# Altium integrated library NSC MiscPower.IntLib: 742 symbols (part 12 of 19)
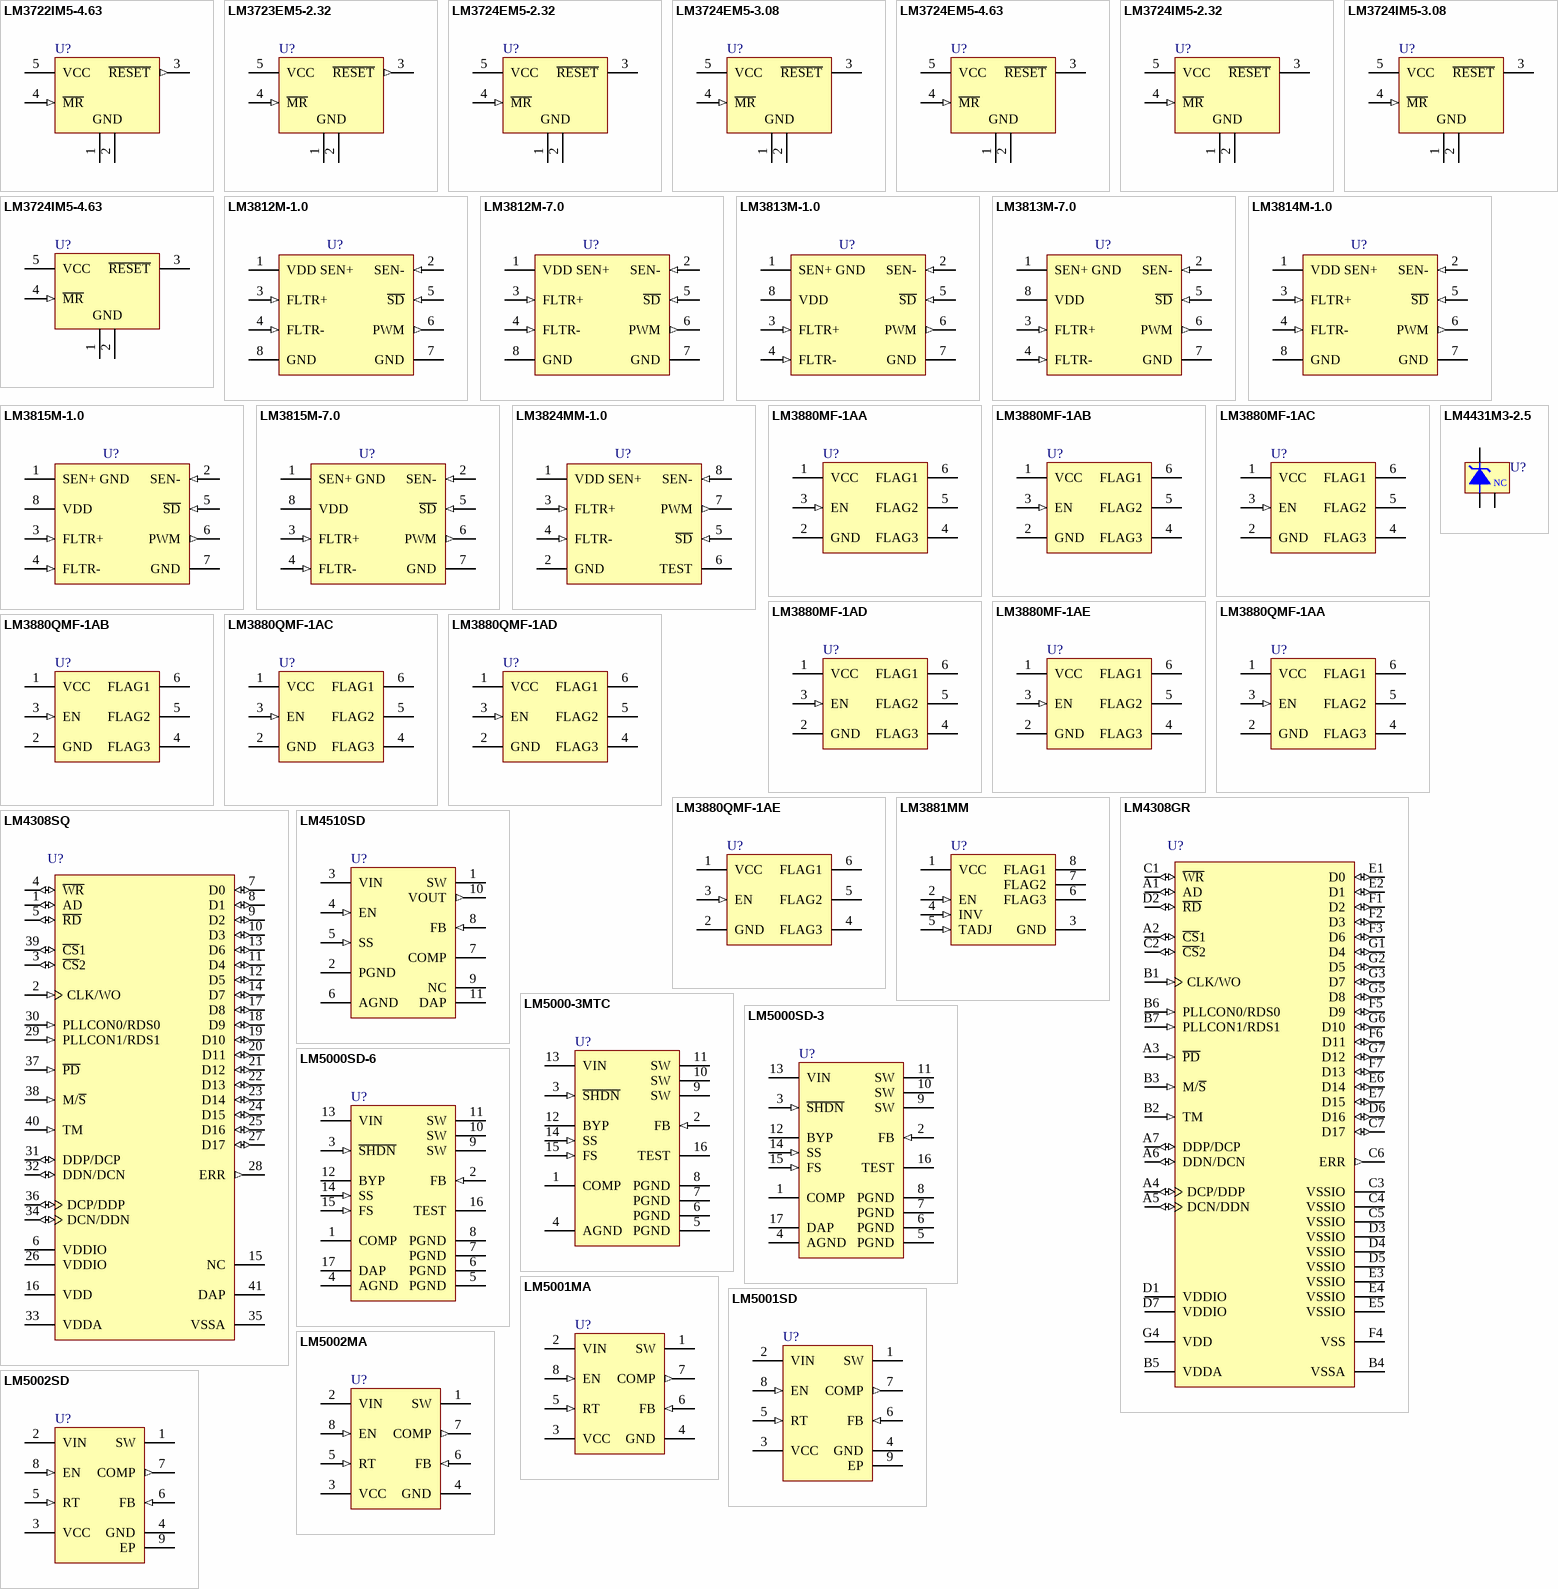
[diagram p36: symbols LM3722IM5-4.63 to LM5002SD]

## LM3880MF-1AC
designator U?
Power Sequencer; PartNumber: LM3880MF-1AC; Manufacturer: National Semiconductor; CompType: MiscPower; PackageTopMarking: F22A*XTT; PowerWise: N; Published: 4-Dec-2008; DatasheetVersion: May-2008; PackageVersion: revC, Sep-2005; PackageReference: MF06A; Publisher: Altium Limited; PackageDescription: Molded SOT-23, .115 x .063 x .040in Body, 6 Lead, .0375in in Pitch; RoHS: Y; PinCount: 6; DigiKeyPartNumber: LM3880MF-1ACCT-ND; Code_JEDEC: MO-178-AB; Code_IPC: SOT26A-6; ComponentLink1Description: LM3880 Datasheet; ComponentLink1URL: http://www.national.com/ds/LM/LM3880.pdf; ComponentLink2Description: LM3880 Web Page; ComponentLink2URL: http://www.national.com/pf/LM/LM3880.html; ComponentLink3Description: MF06A Package Page; ComponentLink3URL: http://www.national.com/packaging/folders/mf06a.html
footprint MF06A_N (SOT23, 6-Leads, Body 2.9x1.6mm, Pitch 0.95mm, Lead Span 2.8mm, IPC Medium Density)
footprint MF06A_L (SOT23, 6-Leads, Body 2.9x1.6mm, Pitch 0.95mm, Lead Span 2.8mm, IPC High Density)
footprint MF06A_M (SOT23, 6-Leads, Body 2.9x1.6mm, Pitch 0.95mm, Lead Span 2.8mm, IPC Low Density)
pins: 1 VCC (power), 2 GND (power), 3 EN (in), 4 FLAG3 (oc), 5 FLAG2 (oc), 6 FLAG1 (oc)

## LM3880MF-1AD
designator U?
Power Sequencer; PartNumber: LM3880MF-1AD; Manufacturer: National Semiconductor; CompType: MiscPower; PackageTopMarking: F23A*XTT; PowerWise: N; Published: 4-Dec-2008; DatasheetVersion: May-2008; PackageVersion: revC, Sep-2005; PackageReference: MF06A; Publisher: Altium Limited; PackageDescription: Molded SOT-23, .115 x .063 x .040in Body, 6 Lead, .0375in in Pitch; RoHS: Y; PinCount: 6; DigiKeyPartNumber: LM3880MF-1ADCT-ND; Code_JEDEC: MO-178-AB; Code_IPC: SOT26A-6; ComponentLink1Description: LM3880 Datasheet; ComponentLink1URL: http://www.national.com/ds/LM/LM3880.pdf; ComponentLink2Description: LM3880 Web Page; ComponentLink2URL: http://www.national.com/pf/LM/LM3880.html; ComponentLink3Description: MF06A Package Page; ComponentLink3URL: http://www.national.com/packaging/folders/mf06a.html
footprint MF06A_N (SOT23, 6-Leads, Body 2.9x1.6mm, Pitch 0.95mm, Lead Span 2.8mm, IPC Medium Density)
footprint MF06A_L (SOT23, 6-Leads, Body 2.9x1.6mm, Pitch 0.95mm, Lead Span 2.8mm, IPC High Density)
footprint MF06A_M (SOT23, 6-Leads, Body 2.9x1.6mm, Pitch 0.95mm, Lead Span 2.8mm, IPC Low Density)
pins: 1 VCC (power), 2 GND (power), 3 EN (in), 4 FLAG3 (oc), 5 FLAG2 (oc), 6 FLAG1 (oc)

## LM3880MF-1AE
designator U?
Power Sequencer; PartNumber: LM3880MF-1AE; Manufacturer: National Semiconductor; CompType: MiscPower; PackageTopMarking: F25A*XTT; PowerWise: N; Published: 4-Dec-2008; DatasheetVersion: May-2008; PackageVersion: revC, Sep-2005; PackageReference: MF06A; Publisher: Altium Limited; PackageDescription: Molded SOT-23, .115 x .063 x .040in Body, 6 Lead, .0375in in Pitch; RoHS: Y; PinCount: 6; DigiKeyPartNumber: LM3880MF-1AECT-ND; Code_JEDEC: MO-178-AB; Code_IPC: SOT26A-6; ComponentLink1Description: LM3880 Datasheet; ComponentLink1URL: http://www.national.com/ds/LM/LM3880.pdf; ComponentLink2Description: LM3880 Web Page; ComponentLink2URL: http://www.national.com/pf/LM/LM3880.html; ComponentLink3Description: MF06A Package Page; ComponentLink3URL: http://www.national.com/packaging/folders/mf06a.html
footprint MF06A_N (SOT23, 6-Leads, Body 2.9x1.6mm, Pitch 0.95mm, Lead Span 2.8mm, IPC Medium Density)
footprint MF06A_L (SOT23, 6-Leads, Body 2.9x1.6mm, Pitch 0.95mm, Lead Span 2.8mm, IPC High Density)
footprint MF06A_M (SOT23, 6-Leads, Body 2.9x1.6mm, Pitch 0.95mm, Lead Span 2.8mm, IPC Low Density)
pins: 1 VCC (power), 2 GND (power), 3 EN (in), 4 FLAG3 (oc), 5 FLAG2 (oc), 6 FLAG1 (oc)

## LM3880QMF-1AA
designator U?
Power Sequencer; PartNumber: LM3880QMF-1AA; Manufacturer: National Semiconductor; CompType: MiscPower; PackageTopMarking: F27A*XTT; PowerWise: N; Published: 4-Dec-2008; DatasheetVersion: May-2008; PackageVersion: revC, Sep-2005; PackageReference: MF06A; Publisher: Altium Limited; PackageDescription: Molded SOT-23, .115 x .063 x .040in Body, 6 Lead, .0375in in Pitch; RoHS: Y; PinCount: 6; DigiKeyPartNumber: LM3880QMF-1AACT-ND; Code_JEDEC: MO-178-AB; Code_IPC: SOT26A-6; ComponentLink1Description: LM3880Q Datasheet; ComponentLink1URL: http://www.national.com/ds/LM/LM3880.pdf; ComponentLink2Description: LM3880Q Web Page; ComponentLink2URL: http://www.national.com/pf/LM/LM3880Q.html; ComponentLink3Description: MF06A Package Page; ComponentLink3URL: http://www.national.com/packaging/folders/mf06a.html
footprint MF06A_N (SOT23, 6-Leads, Body 2.9x1.6mm, Pitch 0.95mm, Lead Span 2.8mm, IPC Medium Density)
footprint MF06A_L (SOT23, 6-Leads, Body 2.9x1.6mm, Pitch 0.95mm, Lead Span 2.8mm, IPC High Density)
footprint MF06A_M (SOT23, 6-Leads, Body 2.9x1.6mm, Pitch 0.95mm, Lead Span 2.8mm, IPC Low Density)
pins: 1 VCC (power), 2 GND (power), 3 EN (in), 4 FLAG3 (oc), 5 FLAG2 (oc), 6 FLAG1 (oc)

## LM3880QMF-1AB
designator U?
Power Sequencer; PartNumber: LM3880QMF-1AB; Manufacturer: National Semiconductor; CompType: MiscPower; PackageTopMarking: F28A*XTT; PowerWise: N; Published: 4-Dec-2008; DatasheetVersion: May-2008; PackageVersion: revC, Sep-2005; PackageReference: MF06A; Publisher: Altium Limited; PackageDescription: Molded SOT-23, .115 x .063 x .040in Body, 6 Lead, .0375in in Pitch; RoHS: Y; PinCount: 6; DigiKeyPartNumber: LM3880QMF-1ABCT-ND; Code_JEDEC: MO-178-AB; Code_IPC: SOT26A-6; ComponentLink1Description: LM3880Q Datasheet; ComponentLink1URL: http://www.national.com/ds/LM/LM3880.pdf; ComponentLink2Description: LM3880Q Web Page; ComponentLink2URL: http://www.national.com/pf/LM/LM3880Q.html; ComponentLink3Description: MF06A Package Page; ComponentLink3URL: http://www.national.com/packaging/folders/mf06a.html
footprint MF06A_N (SOT23, 6-Leads, Body 2.9x1.6mm, Pitch 0.95mm, Lead Span 2.8mm, IPC Medium Density)
footprint MF06A_L (SOT23, 6-Leads, Body 2.9x1.6mm, Pitch 0.95mm, Lead Span 2.8mm, IPC High Density)
footprint MF06A_M (SOT23, 6-Leads, Body 2.9x1.6mm, Pitch 0.95mm, Lead Span 2.8mm, IPC Low Density)
pins: 1 VCC (power), 2 GND (power), 3 EN (in), 4 FLAG3 (oc), 5 FLAG2 (oc), 6 FLAG1 (oc)

## LM3880QMF-1AC
designator U?
Power Sequencer; PartNumber: LM3880QMF-1AC; Manufacturer: National Semiconductor; CompType: MiscPower; PackageTopMarking: F29A*XTT; PowerWise: N; Published: 4-Dec-2008; DatasheetVersion: May-2008; PackageVersion: revC, Sep-2005; PackageReference: MF06A; Publisher: Altium Limited; PackageDescription: Molded SOT-23, .115 x .063 x .040in Body, 6 Lead, .0375in in Pitch; RoHS: Y; PinCount: 6; DigiKeyPartNumber: LM3880QMF-1ACCT-ND; Code_JEDEC: MO-178-AB; Code_IPC: SOT26A-6; ComponentLink1Description: LM3880Q Datasheet; ComponentLink1URL: http://www.national.com/ds/LM/LM3880.pdf; ComponentLink2Description: LM3880Q Web Page; ComponentLink2URL: http://www.national.com/pf/LM/LM3880Q.html; ComponentLink3Description: MF06A Package Page; ComponentLink3URL: http://www.national.com/packaging/folders/mf06a.html
footprint MF06A_N (SOT23, 6-Leads, Body 2.9x1.6mm, Pitch 0.95mm, Lead Span 2.8mm, IPC Medium Density)
footprint MF06A_L (SOT23, 6-Leads, Body 2.9x1.6mm, Pitch 0.95mm, Lead Span 2.8mm, IPC High Density)
footprint MF06A_M (SOT23, 6-Leads, Body 2.9x1.6mm, Pitch 0.95mm, Lead Span 2.8mm, IPC Low Density)
pins: 1 VCC (power), 2 GND (power), 3 EN (in), 4 FLAG3 (oc), 5 FLAG2 (oc), 6 FLAG1 (oc)

## LM3880QMF-1AD
designator U?
Power Sequencer; PartNumber: LM3880QMF-1AD; Manufacturer: National Semiconductor; CompType: MiscPower; PackageTopMarking: F30A*XTT; PowerWise: N; Published: 4-Dec-2008; DatasheetVersion: May-2008; PackageVersion: revC, Sep-2005; PackageReference: MF06A; Publisher: Altium Limited; PackageDescription: Molded SOT-23, .115 x .063 x .040in Body, 6 Lead, .0375in in Pitch; RoHS: Y; PinCount: 6; DigiKeyPartNumber: LM3880QMF-1ADCT-ND; Code_JEDEC: MO-178-AB; Code_IPC: SOT26A-6; ComponentLink1Description: LM3880Q Datasheet; ComponentLink1URL: http://www.national.com/ds/LM/LM3880.pdf; ComponentLink2Description: LM3880Q Web Page; ComponentLink2URL: http://www.national.com/pf/LM/LM3880Q.html; ComponentLink3Description: MF06A Package Page; ComponentLink3URL: http://www.national.com/packaging/folders/mf06a.html
footprint MF06A_N (SOT23, 6-Leads, Body 2.9x1.6mm, Pitch 0.95mm, Lead Span 2.8mm, IPC Medium Density)
footprint MF06A_L (SOT23, 6-Leads, Body 2.9x1.6mm, Pitch 0.95mm, Lead Span 2.8mm, IPC High Density)
footprint MF06A_M (SOT23, 6-Leads, Body 2.9x1.6mm, Pitch 0.95mm, Lead Span 2.8mm, IPC Low Density)
pins: 1 VCC (power), 2 GND (power), 3 EN (in), 4 FLAG3 (oc), 5 FLAG2 (oc), 6 FLAG1 (oc)

## LM3880QMF-1AE
designator U?
Power Sequencer; PartNumber: LM3880QMF-1AE; Manufacturer: National Semiconductor; CompType: MiscPower; PackageTopMarking: F24A*XTT; PowerWise: N; Published: 4-Dec-2008; DatasheetVersion: May-2008; PackageVersion: revC, Sep-2005; PackageReference: MF06A; Publisher: Altium Limited; PackageDescription: Molded SOT-23, .115 x .063 x .040in Body, 6 Lead, .0375in in Pitch; RoHS: Y; PinCount: 6; Code_JEDEC: MO-178-AB; Code_IPC: SOT26A-6; ComponentLink1Description: LM3880Q Datasheet; ComponentLink1URL: http://www.national.com/ds/LM/LM3880.pdf; ComponentLink2Description: LM3880Q Web Page; ComponentLink2URL: http://www.national.com/pf/LM/LM3880Q.html; ComponentLink3Description: MF06A Package Page; ComponentLink3URL: http://www.national.com/packaging/folders/mf06a.html
footprint MF06A_N (SOT23, 6-Leads, Body 2.9x1.6mm, Pitch 0.95mm, Lead Span 2.8mm, IPC Medium Density)
footprint MF06A_L (SOT23, 6-Leads, Body 2.9x1.6mm, Pitch 0.95mm, Lead Span 2.8mm, IPC High Density)
footprint MF06A_M (SOT23, 6-Leads, Body 2.9x1.6mm, Pitch 0.95mm, Lead Span 2.8mm, IPC Low Density)
pins: 1 VCC (power), 2 GND (power), 3 EN (in), 4 FLAG3 (oc), 5 FLAG2 (oc), 6 FLAG1 (oc)

## LM3881MM
designator U?
Power Sequencer; PartNumber: LM3881MM; Manufacturer: National Semiconductor; CompType: MiscPower; PackageTopMarking: ZXTT*STBB; PowerWise: N; Published: 4-Dec-2008; DatasheetVersion: Apr-2008; PackageVersion: revF, Apr-2008; PackageReference: MUA08A; Publisher: Altium Limited; PackageDescription: MINI SOIC, .118 x .118 x .034in, 8 Lead, .0256in Pitch; RoHS: Y; PinCount: 8; DigiKeyPartNumber: LM3881MMCT-ND; Code_JEDEC: MO-187-AA; ComponentLink1Description: LM3881 Datasheet; ComponentLink1URL: http://www.national.com/ds/LM/LM3881.pdf; ComponentLink2Description: LM3881 Web Page; ComponentLink2URL: http://www.national.com/pf/LM/LM3881.html; ComponentLink3Description: MUA08A Package Page; ComponentLink3URL: http://www.national.com/packaging/folders/mua08a.html
footprint MUA08A_N (TSOP, 8-Leads, Body 3x3mm, Pitch 0.65mm, IPC Medium Density)
footprint MUA08A_L (TSOP, 8-Leads, Body 3x3mm, Pitch 0.65mm, IPC High Density)
footprint MUA08A_M (TSOP, 8-Leads, Body 3x3mm, Pitch 0.65mm, IPC Low Density)
pins: 1 VCC (power), 2 EN (in), 3 GND (power), 4 INV (in), 5 TADJ (in), 6 FLAG3 (oc), 7 FLAG2 (oc), 8 FLAG1 (oc)

## LM4308GR
designator U?
Mobile Pixel Link Two (MPL-2)  - 18-bit CPU Display Interface Master/Slave; PartNumber: LM4308GR; Manufacturer: National Semiconductor; CompType: MiscPower; PackageTopMarking: NS*UZXYTT*L4308GR; PowerWise: N; Published: 4-Dec-2008; DatasheetVersion: Sep-2007; PackageVersion: revA, Nov-2003; PackageReference: GRA49A; Publisher: Altium Limited; PackageDescription: Micro-Array, 4 x 4 x 1mm Body, 49 Ball, 0.5mm Pitch; RoHS: Y; PinCount: 49; DigiKeyPartNumber: LM4308GR-ND; ComponentLink1Description: LM4308 Datasheet; ComponentLink1URL: http://www.national.com/ds/LM/LM4308.pdf; ComponentLink2Description: LM4308 Web Page; ComponentLink2URL: http://www.national.com/pf/LM/LM4308.html; ComponentLink3Description: GRA49A Package Page; ComponentLink3URL: http://www.national.com/packaging/folders/gra49a.html
footprint GRA49A (BGA, 49-Leads, Body 4x4mm, Pitch 0.5mm, NSC Recommended)
pins: A1 AD (io), A2 ~{CS}1 (io), A3 ~{PD} (in), A4 DCP/DDP (io), A5 DCN/DDN (io), A6 DDN/DCN (io), A7 DDP/DCP (io), B1 CLK/WO (in), B2 TM (in), B3 M/~{S} (in), B4 VSSA (power), B5 VDDA (power), B6 PLLCON0/RDS0 (in), B7 PLLCON1/RDS1 (in), C1 ~{WR} (io), C2 ~{CS}2 (io), C3 VSSIO, C4 VSSIO, C5 VSSIO, C6 ERR (out), C7 D17 (io), D1 VDDIO (power), D2 ~{RD} (io), D3 VSSIO, D4 VSSIO, D5 VSSIO, D6 D16 (io), D7 VDDIO (power), E1 D0 (io), E2 D1 (io), E3 VSSIO, E4 VSSIO, E5 VSSIO, E6 D14 (io), E7 D15 (io), F1 D2 (io), F2 D3 (io), F3 D6 (io), F4 VSS (power), F5 D9 (io), F6 D11 (io), F7 D13 (io), G1 D4 (io), G2 D5 (io), G3 D7 (io), G4 VDD (power), G5 D8 (io), G6 D10 (io), G7 D12 (io)

## LM4308SQ
designator U?
Mobile Pixel Link Two (MPL-2)  - 18-bit CPU Display Interface Master/Slave; PartNumber: LM4308SQ; Manufacturer: National Semiconductor; CompType: MiscPower; PackageTopMarking: NS*UZXYTT*L4308SQ; PowerWise: N; Published: 4-Dec-2008; DatasheetVersion: Sep-2007; PackageVersion: revB, Jul-2004; PackageReference: SQF40A; Publisher: Altium Limited; PackageDescription: LLP, Quad, 5 x 5 x 0.8mm Body, 40 Lead, 0.4mm Pitch, 3.6 x 3.6mm Exposed Pad; RoHS: Y; PinCount: 40; DigiKeyPartNumber: LM4308SQ-ND; ComponentLink1Description: LM4308 Datasheet; ComponentLink1URL: http://www.national.com/ds/LM/LM4308.pdf; ComponentLink2Description: LM4308 Web Page; ComponentLink2URL: http://www.national.com/pf/LM/LM4308.html; ComponentLink3Description: SQF40A Package Page; ComponentLink3URL: http://www.national.com/packaging/folders/sqf40a.html
footprint SQF40A (QFN, 40-Leads, Body 5x5 mm, Pitch 0.4mm, NSC Recommended)
pins: 1 AD (io), 2 CLK/WO (in), 3 ~{CS}2 (io), 4 ~{WR} (io), 5 ~{RD} (io), 6 VDDIO (power), 7 D0 (io), 8 D1 (io), 9 D2 (io), 10 D3 (io), 11 D4 (io), 12 D5 (io), 13 D6 (io), 14 D7 (io), 15 NC, 16 VDD (power), 17 D8 (io), 18 D9 (io), 19 D10 (io), 20 D11 (io), 21 D12 (io), 22 D13 (io), 23 D14 (io), 24 D15 (io), 25 D16 (io), 26 VDDIO (power), 27 D17 (io), 28 ERR (out), 29 PLLCON1/RDS1 (in), 30 PLLCON0/RDS0 (in), 31 DDP/DCP (io), 32 DDN/DCN (io), 33 VDDA (power), 34 DCN/DDN (io), 35 VSSA (power), 36 DCP/DDP (io), 37 ~{PD} (in), 38 M/~{S} (in), 39 ~{CS}1 (io), 40 TM (in), 41 DAP (power)

## LM4431M3-2.5
designator U?
Micropower Shunt Voltage Reference; PartNumber: LM4431M3-2.5; Manufacturer: National Semiconductor; CompType: MiscPower; PackageTopMarking: S2E*XTT; PowerWise: N; Published: 4-Dec-2008; DatasheetVersion: Jul-1998; PackageVersion: revB, Mar-2003; PackageReference: MF03A; Publisher: Altium Limited; PackageDescription: Molded SOT-23, .115 x .051 x .037in Body, 3 Lead, .075 in Pitch; RoHS: O; PinCount: 3; DigiKeyPartNumber: LM4431M3-2.5CT-ND; ComponentLink1Description: LM4431 Datasheet; ComponentLink1URL: http://www.national.com/ds/LM/LM4431.pdf; ComponentLink2Description: LM4431 Web Page; ComponentLink2URL: http://www.national.com/pf/LM/LM4431.html; ComponentLink3Description: MF03A Package Page; ComponentLink3URL: http://www.national.com/packaging/folders/mf03a.html
footprint MF03A_N (SOT23, 3-Leads, Body 2.9x1.3mm, Pitch 0.95mm, Lead Span 2.4mm, IPC Medium Density)
footprint MF03A_L (SOT23, 3-Leads, Body 2.9x1.3mm, Pitch 0.95mm, Lead Span 2.4mm, IPC High Density)
footprint MF03A_M (SOT23, 3-Leads, Body 2.9x1.3mm, Pitch 0.95mm, Lead Span 2.4mm, IPC Low Density)
pins: 1 V+, 2 V-, 3 NC

## LM4510SD
designator U?
Synchronous Step-Up DC/DC Converter with True Shutdown Isolation; PartNumber: LM4510SD; Manufacturer: National Semiconductor; CompType: MiscPower; PackageTopMarking: ZXYTT*L4510; PowerWise: Y; Published: 4-Dec-2008; DatasheetVersion: Oct-2007; PackageVersion: revA, Oct-2003; PackageReference: SDA10A; Publisher: Altium Limited; PackageDescription: LLP, Plastic, Dual, 3 x 3 x 0.8mm Body, 10 Lead, 0.5mm Pitch, No Pullback; RoHS: Y; PinCount: 10; DigiKeyPartNumber: LM4510SDEV-ND; ComponentLink1Description: LM4510 Datasheet; ComponentLink1URL: http://www.national.com/ds/LM/LM4510.pdf; ComponentLink2Description: LM4510 Web Page; ComponentLink2URL: http://www.national.com/pf/LM/LM4510.html; ComponentLink3Description: SDA10A Package Page; ComponentLink3URL: http://www.national.com/packaging/folders/sda10a.html
footprint SDA10A (SON, 10-Leads, Body 3x3 mm, Pitch 0.5mm, NSC Recommended)
pins: 1 SW (power), 2 PGND (power), 3 VIN (power), 4 EN (in), 5 SS (in), 6 AGND (power), 7 COMP, 8 FB (in), 9 NC, 10 VOUT (out), 11 DAP (power)

## LM5000-3MTC
designator U?
High Voltage Switch Mode Regulator; PartNumber: LM5000-3MTC; Manufacturer: National Semiconductor; CompType: MiscPower; PackageTopMarking: NSZXYTT*LM5000*3MTC; PowerWise: N; Published: 4-Dec-2008; DatasheetVersion: Feb-2007; PackageVersion: revD, Jun-2003; PackageReference: MTC16; Publisher: Altium Limited; PackageDescription: Molded TSSOP, Jedec, 5 x 4.4 x 0.9mm Body, 16 Lead, 0.65mm Pitch; RoHS: O; PinCount: 16; DigiKeyPartNumber: LM5000-3MTC-ND; Code_JEDEC: MO-153-AB; ComponentLink1Description: LM5000 Datasheet; ComponentLink1URL: http://www.national.com/ds/LM/LM5000.pdf; ComponentLink2Description: LM5000 Web Page; ComponentLink2URL: http://www.national.com/pf/LM/LM5000.html; ComponentLink3Description: MTC16 Package Page; ComponentLink3URL: http://www.national.com/packaging/folders/mtc16.html
footprint MTC16_N (TSOP, 16-Leads, Body 5x4.4mm, Pitch 0.65mm, IPC Medium Density)
footprint MTC16_L (TSOP, 16-Leads, Body 5x4.4mm, Pitch 0.65mm, IPC High Density)
footprint MTC16_M (TSOP, 16-Leads, Body 5x4.4mm, Pitch 0.65mm, IPC Low Density)
pins: 1 COMP, 2 FB (in), 3 ~{SHDN} (in), 4 AGND (power), 5 PGND (power), 6 PGND (power), 7 PGND (power), 8 PGND (power), 9 SW (power), 10 SW (power), 11 SW (power), 12 BYP, 13 VIN (power), 14 SS (in), 15 FS (in), 16 TEST

## LM5000SD-3
designator U?
High Voltage Switch Mode Regulator; PartNumber: LM5000SD-3; Manufacturer: National Semiconductor; CompType: MiscPower; PackageTopMarking: NS*UZXYTT*5000-3; PowerWise: N; Published: 4-Dec-2008; DatasheetVersion: Feb-2007; PackageVersion: revA, May-2003; PackageReference: SDA16A; Publisher: Altium Limited; PackageDescription: LLP, Plastic, Dual, 5 x 5 x 0.8mm Body,16 Lead, 0.5mm Pitch, No Pullback; RoHS: Y; PinCount: 16; DigiKeyPartNumber: LM5000SD-3CT-ND; ComponentLink1Description: LM5000 Datasheet; ComponentLink1URL: http://www.national.com/ds/LM/LM5000.pdf; ComponentLink2Description: LM5000 Web Page; ComponentLink2URL: http://www.national.com/pf/LM/LM5000.html; ComponentLink3Description: SDA16A Package Page; ComponentLink3URL: http://www.national.com/packaging/folders/sda16a.html
footprint SDA16A (SON, 16-Leads, Body 5x5mm, Pitch 0.5mm, NSC Recommended)
pins: 1 COMP, 2 FB (in), 3 ~{SHDN} (in), 4 AGND (power), 5 PGND (power), 6 PGND (power), 7 PGND (power), 8 PGND (power), 9 SW (power), 10 SW (power), 11 SW (power), 12 BYP, 13 VIN (power), 14 SS (in), 15 FS (in), 16 TEST, 17 DAP (power)

## LM5000SD-6
designator U?
High Voltage Switch Mode Regulator; PartNumber: LM5000SD-6; Manufacturer: National Semiconductor; CompType: MiscPower; PackageTopMarking: NS*UZXYTT*5000-6; PowerWise: N; Published: 4-Dec-2008; DatasheetVersion: Feb-2007; PackageVersion: revA, May-2003; PackageReference: SDA16A; Publisher: Altium Limited; PackageDescription: LLP, Plastic, Dual, 5 x 5 x 0.8mm Body,16 Lead, 0.5mm Pitch, No Pullback; RoHS: Y; PinCount: 16; DigiKeyPartNumber: LM5000SD-6CT-ND; ComponentLink1Description: LM5000 Datasheet; ComponentLink1URL: http://www.national.com/ds/LM/LM5000.pdf; ComponentLink2Description: LM5000 Web Page; ComponentLink2URL: http://www.national.com/pf/LM/LM5000.html; ComponentLink3Description: SDA16A Package Page; ComponentLink3URL: http://www.national.com/packaging/folders/sda16a.html
footprint SDA16A (SON, 16-Leads, Body 5x5mm, Pitch 0.5mm, NSC Recommended)
pins: 1 COMP, 2 FB (in), 3 ~{SHDN} (in), 4 AGND (power), 5 PGND (power), 6 PGND (power), 7 PGND (power), 8 PGND (power), 9 SW (power), 10 SW (power), 11 SW (power), 12 BYP, 13 VIN (power), 14 SS (in), 15 FS (in), 16 TEST, 17 DAP (power)

## LM5001MA
designator U?
High Voltage Switch Mode Regulator; PartNumber: LM5001MA; Manufacturer: National Semiconductor; CompType: MiscPower; PackageTopMarking: NSZXTT*L5001*MA; PowerWise: N; Published: 4-Dec-2008; DatasheetVersion: Nov-2007; PackageVersion: revL, Sep-2006; PackageReference: M08A; Publisher: Altium Limited; PackageDescription: SOIC Narrow, 4.9 x 3.9 x 1.45mm, 8 Lead, 1.27mm Pitch; RoHS: Y; PinCount: 8; DigiKeyPartNumber: LM5001MA-ND; Code_JEDEC: MS-012-AA; Code_IPC: SOIC127P600-8; ComponentLink1Description: LM5001 Datasheet; ComponentLink1URL: http://www.national.com/ds/LM/LM5001.pdf; ComponentLink2Description: LM5001 Web Page; ComponentLink2URL: http://www.national.com/pf/LM/LM5001.html; ComponentLink3Description: M08A Package Page; ComponentLink3URL: http://www.national.com/packaging/folders/m08a.html
footprint M08A_N (SOIC, 8-Leads, Body 4.9x3.9mm, Pitch 1.27mm, IPC Medium Density)
footprint M08A_L (SOIC, 8-Leads, Body 4.9x3.9mm, Pitch 1.27mm, IPC High Density)
footprint M08A_M (SOIC, 8-Leads, Body 4.9x3.9mm, Pitch 1.27mm, IPC Low Density)
pins: 1 SW (power), 2 VIN (power), 3 VCC (power), 4 GND (power), 5 RT (in), 6 FB (in), 7 COMP (out), 8 EN (in)

## LM5001SD
designator U?
High Voltage Switch Mode Regulator; PartNumber: LM5001SD; Manufacturer: National Semiconductor; CompType: MiscPower; PackageTopMarking: NS*UZXYTT*LM5001; PowerWise: N; Published: 4-Dec-2008; DatasheetVersion: Nov-2007; PackageVersion: revA, Jun-2003; PackageReference: SDC08A; Publisher: Altium Limited; PackageDescription: LLP, Plastic, Dual, 4 x 4 x 0.8mm Body, 8 Lead, 0.8mm Pitch, No Pullback; RoHS: Y; PinCount: 8; DigiKeyPartNumber: LM5001SDCT-ND; ComponentLink1Description: LM5001 Datasheet; ComponentLink1URL: http://www.national.com/ds/LM/LM5001.pdf; ComponentLink2Description: LM5001 Web Page; ComponentLink2URL: http://www.national.com/pf/LM/LM5001.html; ComponentLink3Description: SDC08A Package Page; ComponentLink3URL: http://www.national.com/packaging/folders/sdc08a.html
footprint SDC08A (SON, 8-Leads, Body 4x4mm, Pitch 0.8mm, NSC Recommended)
pins: 1 SW (power), 2 VIN (power), 3 VCC (power), 4 GND (power), 5 RT (in), 6 FB (in), 7 COMP (out), 8 EN (in), 9 EP (power)

## LM5002MA
designator U?
High Voltage Switch Mode Regulator; PartNumber: LM5002MA; Manufacturer: National Semiconductor; CompType: MiscPower; PackageTopMarking: NSZXTT*L5002*MA; PowerWise: N; Published: 4-Dec-2008; DatasheetVersion: May-2007; PackageVersion: revL, Sep-2006; PackageReference: M08A; Publisher: Altium Limited; PackageDescription: SOIC Narrow, 4.9 x 3.9 x 1.45mm, 8 Lead, 1.27mm Pitch; RoHS: Y; PinCount: 8; DigiKeyPartNumber: LM5002MA-ND; Code_JEDEC: MS-012-AA; Code_IPC: SOIC127P600-8; ComponentLink1Description: LM5002 Datasheet; ComponentLink1URL: http://www.national.com/ds/LM/LM5002.pdf; ComponentLink2Description: LM5002 Web Page; ComponentLink2URL: http://www.national.com/pf/LM/LM5002.html; ComponentLink3Description: M08A Package Page; ComponentLink3URL: http://www.national.com/packaging/folders/m08a.html
footprint M08A_N (SOIC, 8-Leads, Body 4.9x3.9mm, Pitch 1.27mm, IPC Medium Density)
footprint M08A_L (SOIC, 8-Leads, Body 4.9x3.9mm, Pitch 1.27mm, IPC High Density)
footprint M08A_M (SOIC, 8-Leads, Body 4.9x3.9mm, Pitch 1.27mm, IPC Low Density)
pins: 1 SW (power), 2 VIN (power), 3 VCC (power), 4 GND (power), 5 RT (in), 6 FB (in), 7 COMP (out), 8 EN (in)

## LM5002SD
designator U?
High Voltage Switch Mode Regulator; PartNumber: LM5002SD; Manufacturer: National Semiconductor; CompType: MiscPower; PackageTopMarking: NS*UZXYTT*LM5002; PowerWise: N; Published: 4-Dec-2008; DatasheetVersion: May-2007; PackageVersion: revA, Jun-2003; PackageReference: SDC08A; Publisher: Altium Limited; PackageDescription: LLP, Plastic, Dual, 4 x 4 x 0.8mm Body, 8 Lead, 0.8mm Pitch, No Pullback; RoHS: Y; PinCount: 8; DigiKeyPartNumber: LM5002SDCT-ND; ComponentLink1Description: LM5002 Datasheet; ComponentLink1URL: http://www.national.com/ds/LM/LM5002.pdf; ComponentLink2Description: LM5002 Web Page; ComponentLink2URL: http://www.national.com/pf/LM/LM5002.html; ComponentLink3Description: SDC08A Package Page; ComponentLink3URL: http://www.national.com/packaging/folders/sdc08a.html
footprint SDC08A (SON, 8-Leads, Body 4x4mm, Pitch 0.8mm, NSC Recommended)
pins: 1 SW (power), 2 VIN (power), 3 VCC (power), 4 GND (power), 5 RT (in), 6 FB (in), 7 COMP (out), 8 EN (in), 9 EP (power)

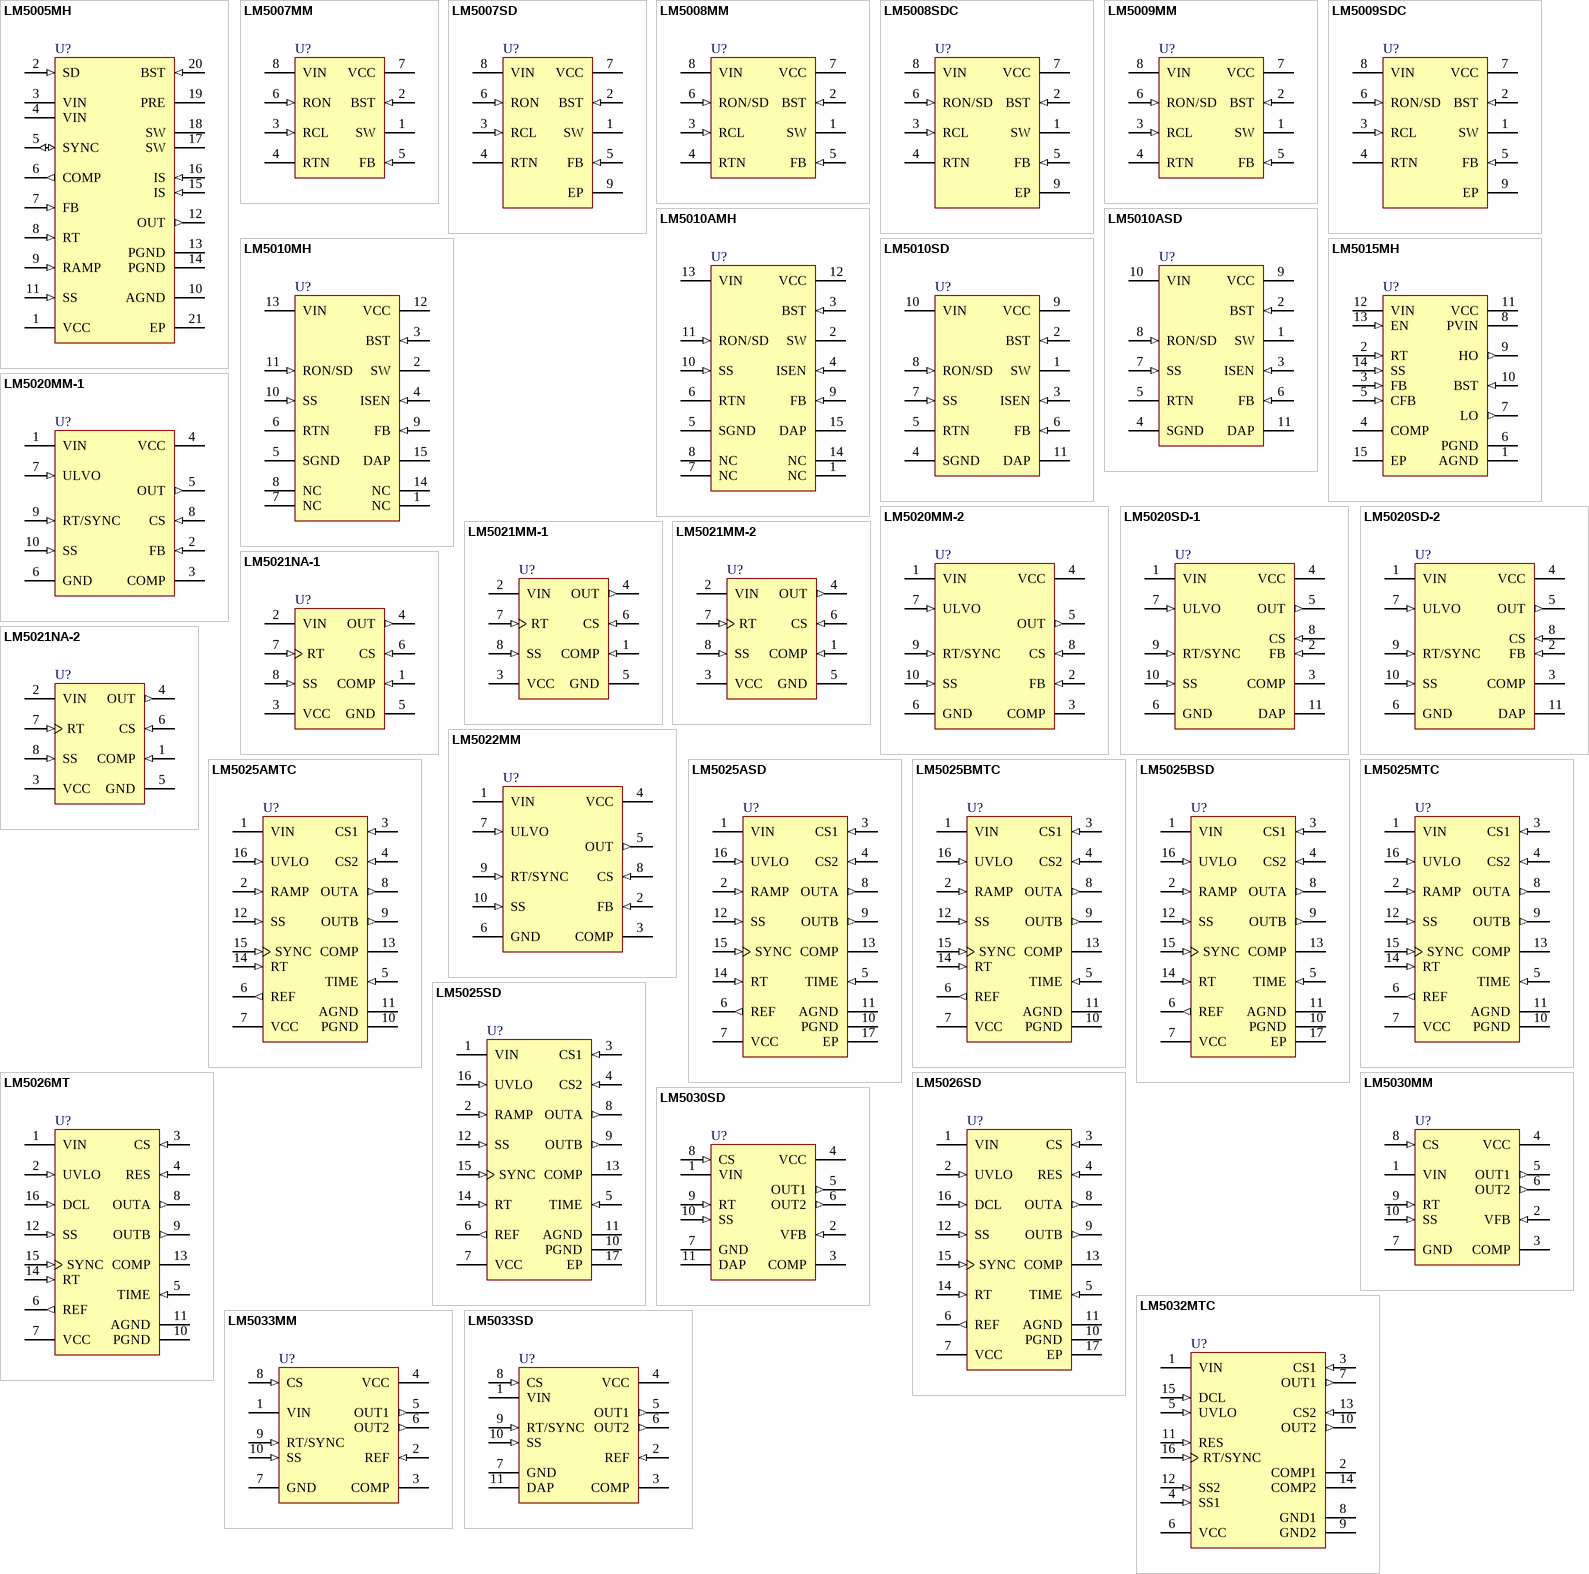
[diagram p14: symbols LM5005MH to LM5033SD]

## LM5005MH
designator U?
High Voltage 2.5 Amp Buck Regulator; PartNumber: LM5005MH; Manufacturer: National Semiconductor; CompType: MiscPower; PackageTopMarking: NSUZXYTT*LM5005*MH; PowerWise: N; Published: 4-Dec-2008; DatasheetVersion: Mar-2006; PackageVersion: revC, Jul-2006; PackageReference: MXA20A; Publisher: Altium Limited; PackageDescription: Molded TSSOP, Jedec, 6.5 x 4.4 x 0.9mm Body, 20 Lead, 0.65mm Pitch, Exposed Pad; RoHS: O; PinCount: 20; DigiKeyPartNumber: LM5005MH-ND; Code_JEDEC: MO-153-ACT; ComponentLink1Description: LM5005 Datasheet; ComponentLink1URL: http://www.national.com/ds/LM/LM5005.pdf; ComponentLink2Description: LM5005 Web Page; ComponentLink2URL: http://www.national.com/pf/LM/LM5005.html; ComponentLink3Description: MXA20A Package Page; ComponentLink3URL: http://www.national.com/packaging/folders/mxa20a.html
footprint MXA20A_N (TSOP, 20-Leads, Body 6.5x4.4mm, Pitch 0.65mm, Exposed Pad, IPC Medium Density)
footprint MXA20A_L (TSOP, 20-Leads, Body 6.5x4.4mm, Pitch 0.65mm, Exposed Pad, IPC High Density)
footprint MXA20A_M (TSOP, 20-Leads, Body 6.5x4.4mm, Pitch 0.65mm, Exposed Pad, IPC Low Density)
pins: 1 VCC (power), 2 SD (in), 3 VIN (power), 4 VIN (power), 5 SYNC (io), 6 COMP (out), 7 FB (in), 8 RT (in), 9 RAMP (in), 10 AGND (power), 11 SS (in), 12 OUT (out), 13 PGND (power), 14 PGND (power), 15 IS (in), 16 IS (in), 17 SW (power), 18 SW (power), 19 PRE (oc), 20 BST (in), 21 EP (power)

## LM5007MM
designator U?
High Voltage (80V) Step Down Switching Regulator; PartNumber: LM5007MM; Manufacturer: National Semiconductor; CompType: MiscPower; PackageTopMarking: ZXTT*S81B; PowerWise: N; Published: 4-Dec-2008; DatasheetVersion: Feb-2008; PackageVersion: revF, Apr-2008; PackageReference: MUA08A; Publisher: Altium Limited; PackageDescription: MINI SOIC, .118 x .118 x .034in, 8 Lead, .0256in Pitch; RoHS: O; PinCount: 8; DigiKeyPartNumber: LM5007MMCT-ND; Code_JEDEC: MO-187-AA; ComponentLink1Description: LM5007 Datasheet; ComponentLink1URL: http://www.national.com/ds/LM/LM5007.pdf; ComponentLink2Description: LM5007 Web Page; ComponentLink2URL: http://www.national.com/pf/LM/LM5007.html; ComponentLink3Description: MUA08A Package Page; ComponentLink3URL: http://www.national.com/packaging/folders/mua08a.html
footprint MUA08A_N (TSOP, 8-Leads, Body 3x3mm, Pitch 0.65mm, IPC Medium Density)
footprint MUA08A_L (TSOP, 8-Leads, Body 3x3mm, Pitch 0.65mm, IPC High Density)
footprint MUA08A_M (TSOP, 8-Leads, Body 3x3mm, Pitch 0.65mm, IPC Low Density)
pins: 1 SW (power), 2 BST (in), 3 RCL (in), 4 RTN (power), 5 FB (in), 6 RON (in), 7 VCC (power), 8 VIN (power)

## LM5007SD
designator U?
High Voltage (80V) Step Down Switching Regulator; PartNumber: LM5007SD; Manufacturer: National Semiconductor; CompType: MiscPower; PackageTopMarking: NS*UZXYTT*L00031B; PowerWise: N; Published: 4-Dec-2008; DatasheetVersion: Feb-2008; PackageVersion: revA, Jun-2003; PackageReference: SDC08A; Publisher: Altium Limited; PackageDescription: LLP, Plastic, Dual, 4 x 4 x 0.8mm Body, 8 Lead, 0.8mm Pitch, No Pullback; RoHS: O; PinCount: 8; DigiKeyPartNumber: LM5007SDCT-ND; ComponentLink1Description: LM5007 Datasheet; ComponentLink1URL: http://www.national.com/ds/LM/LM5007.pdf; ComponentLink2Description: LM5007 Web Page; ComponentLink2URL: http://www.national.com/pf/LM/LM5007.html; ComponentLink3Description: SDC08A Package Page; ComponentLink3URL: http://www.national.com/packaging/folders/sdc08a.html
footprint SDC08A (SON, 8-Leads, Body 4x4mm, Pitch 0.8mm, NSC Recommended)
pins: 1 SW (power), 2 BST (in), 3 RCL (in), 4 RTN (power), 5 FB (in), 6 RON (in), 7 VCC (power), 8 VIN (power), 9 EP (power)

## LM5008MM
designator U?
High Voltage (100V) Step Down Switching Regulator; PartNumber: LM5008MM; Manufacturer: National Semiconductor; CompType: MiscPower; PackageTopMarking: ZXTT*SAYB; PowerWise: N; Published: 4-Dec-2008; DatasheetVersion: Feb-2008; PackageVersion: revF, Apr-2008; PackageReference: MUA08A; Publisher: Altium Limited; PackageDescription: MINI SOIC, .118 x .118 x .034in, 8 Lead, .0256in Pitch; RoHS: O; PinCount: 8; DigiKeyPartNumber: LM5008MMCT-ND; Code_JEDEC: MO-187-AA; ComponentLink1Description: LM5008 Datasheet; ComponentLink1URL: http://www.national.com/ds/LM/LM5008.pdf; ComponentLink2Description: LM5008 Web Page; ComponentLink2URL: http://www.national.com/pf/LM/LM5008.html; ComponentLink3Description: MUA08A Package Page; ComponentLink3URL: http://www.national.com/packaging/folders/mua08a.html
footprint MUA08A_N (TSOP, 8-Leads, Body 3x3mm, Pitch 0.65mm, IPC Medium Density)
footprint MUA08A_L (TSOP, 8-Leads, Body 3x3mm, Pitch 0.65mm, IPC High Density)
footprint MUA08A_M (TSOP, 8-Leads, Body 3x3mm, Pitch 0.65mm, IPC Low Density)
pins: 1 SW (power), 2 BST (in), 3 RCL (in), 4 RTN (power), 5 FB (in), 6 RON/SD (in), 7 VCC (power), 8 VIN (power)

## LM5008SDC
designator U?
High Voltage (100V) Step Down Switching Regulator; PartNumber: LM5008SDC; Manufacturer: National Semiconductor; CompType: MiscPower; PackageTopMarking: NS*UZXYTT*L5008SD; PowerWise: N; Published: 4-Dec-2008; DatasheetVersion: Feb-2008; PackageVersion: revA, Mar-2006; PackageReference: SDC08B; Publisher: Altium Limited; PackageDescription: LLP, Dual, 4 x 4 x 0.8mm Body, 8 Lead, 0.8mm Pitch, No Pullback, 1.98 x 3mm Exposed Pad; RoHS: Y; PinCount: 8; DigiKeyPartNumber: LM5008SDCCT-ND; ComponentLink1Description: LM5008 Datasheet; ComponentLink1URL: http://www.national.com/ds/LM/LM5008.pdf; ComponentLink2Description: LM5008 Web Page; ComponentLink2URL: http://www.national.com/pf/LM/LM5008.html; ComponentLink3Description: SDC08B Package Page; ComponentLink3URL: http://www.national.com/packaging/folders/sdc08b.html
footprint SDC08B (SON, 8-Leads, Body 4x4mm, Pitch 0.8mm, NSC Recommended)
pins: 1 SW (power), 2 BST (in), 3 RCL (in), 4 RTN (power), 5 FB (in), 6 RON/SD (in), 7 VCC (power), 8 VIN (power), 9 EP (power)

## LM5009MM
designator U?
150 mA, 100V  Step-Down Switching Regulator; PartNumber: LM5009MM; Manufacturer: National Semiconductor; CompType: MiscPower; PackageTopMarking: ZXTT*SLLB; PowerWise: Y; Published: 4-Dec-2008; DatasheetVersion: Feb-2008; PackageVersion: revF, Apr-2008; PackageReference: MUA08A; Publisher: Altium Limited; PackageDescription: MINI SOIC, .118 x .118 x .034in, 8 Lead, .0256in Pitch; RoHS: O; PinCount: 8; DigiKeyPartNumber: LM5009MMCT-ND; Code_JEDEC: MO-187-AA; ComponentLink1Description: LM5009 Datasheet; ComponentLink1URL: http://www.national.com/ds/LM/LM5009.pdf; ComponentLink2Description: LM5009 Web Page; ComponentLink2URL: http://www.national.com/pf/LM/LM5009.html; ComponentLink3Description: MUA08A Package Page; ComponentLink3URL: http://www.national.com/packaging/folders/mua08a.html
footprint MUA08A_N (TSOP, 8-Leads, Body 3x3mm, Pitch 0.65mm, IPC Medium Density)
footprint MUA08A_L (TSOP, 8-Leads, Body 3x3mm, Pitch 0.65mm, IPC High Density)
footprint MUA08A_M (TSOP, 8-Leads, Body 3x3mm, Pitch 0.65mm, IPC Low Density)
pins: 1 SW (power), 2 BST (in), 3 RCL (in), 4 RTN (power), 5 FB (in), 6 RON/SD (in), 7 VCC (power), 8 VIN (power)

## LM5009SDC
designator U?
150 mA, 100V  Step-Down Switching Regulator; PartNumber: LM5009SDC; Manufacturer: National Semiconductor; CompType: MiscPower; PackageTopMarking: NS*UZXYTT*5009SD; PowerWise: Y; Published: 4-Dec-2008; DatasheetVersion: Feb-2008; PackageVersion: revA, Mar-2006; PackageReference: SDC08B; Publisher: Altium Limited; PackageDescription: LLP, Dual, 4 x 4 x 0.8mm Body, 8 Lead, 0.8mm Pitch, No Pullback, 1.98 x 3mm Exposed Pad; RoHS: Y; PinCount: 8; DigiKeyPartNumber: LM5009SDCCT-ND; ComponentLink1Description: LM5009 Datasheet; ComponentLink1URL: http://www.national.com/ds/LM/LM5009.pdf; ComponentLink2Description: LM5009 Web Page; ComponentLink2URL: http://www.national.com/pf/LM/LM5009.html; ComponentLink3Description: SDC08B Package Page; ComponentLink3URL: http://www.national.com/packaging/folders/sdc08b.html
footprint SDC08B (SON, 8-Leads, Body 4x4mm, Pitch 0.8mm, NSC Recommended)
pins: 1 SW (power), 2 BST (in), 3 RCL (in), 4 RTN (power), 5 FB (in), 6 RON/SD (in), 7 VCC (power), 8 VIN (power), 9 EP (power)

## LM5010AMH
designator U?
High Voltage 1A Step Down Switching Regulator; PartNumber: LM5010AMH; Manufacturer: National Semiconductor; CompType: MiscPower; PackageTopMarking: NSUZXYTT*L5010*AMH; PowerWise: N; Published: 4-Dec-2008; DatasheetVersion: Jan-2008; PackageVersion: revA, Feb-2003; PackageReference: MXA14A; Publisher: Altium Limited; PackageDescription: Molded TSSOP, JEDEC, Exposed Pad, 5.0 x 4.4 x 0.9mm Body, 14 Lead, 0.65mm Pitch; RoHS: Y; PinCount: 14; DigiKeyPartNumber: LM5010AMH-ND; Code_JEDEC: MO-153-ABT-1; ComponentLink1Description: LM5010A Datasheet; ComponentLink1URL: http://www.national.com/ds/LM/LM5010A.pdf; ComponentLink2Description: LM5010A Web Page; ComponentLink2URL: http://www.national.com/pf/LM/LM5010A.html; ComponentLink3Description: MXA14A Package Page; ComponentLink3URL: http://www.national.com/packaging/folders/mxa14a.html
footprint MXA14A_N (TSOP, 14-Leads, Body 5x4.4mm, Pitch 0.65mm, Exposed Pad, IPC Medium Density)
footprint MXA14A_L (TSOP, 14-Leads, Body 5x4.4mm, Pitch 0.65mm, Exposed Pad, IPC High Density)
footprint MXA14A_M (TSOP, 14-Leads, Body 5x4.4mm, Pitch 0.65mm, Exposed Pad, IPC Low Density)
pins: 1 NC, 2 SW (power), 3 BST (in), 4 ISEN (in), 5 SGND (power), 6 RTN (power), 7 NC, 8 NC, 9 FB (in), 10 SS (in), 11 RON/SD (in), 12 VCC (power), 13 VIN (power), 14 NC, 15 DAP (power)

## LM5010ASD
designator U?
High Voltage 1A Step Down Switching Regulator; PartNumber: LM5010ASD; Manufacturer: National Semiconductor; CompType: MiscPower; PackageTopMarking: NS*UZXYTT*L00065B; PowerWise: N; Published: 4-Dec-2008; DatasheetVersion: Jan-2008; PackageVersion: revA, May-2003; PackageReference: SDC10A; Publisher: Altium Limited; PackageDescription: LLP, Plastic, Dual, 4 x 4 x 0.8mm Body, 10 Lead, 0.8mm Pitch, No Pullback; RoHS: O; PinCount: 10; DigiKeyPartNumber: LM5010ASDCT-ND; ComponentLink1Description: LM5010A Datasheet; ComponentLink1URL: http://www.national.com/ds/LM/LM5010A.pdf; ComponentLink2Description: LM5010A Web Page; ComponentLink2URL: http://www.national.com/pf/LM/LM5010A.html; ComponentLink3Description: SDC10A Package Page; ComponentLink3URL: http://www.national.com/packaging/folders/sdc10a.html
footprint SDC10A (SON, 10-Leads, Body 4x4 mm, Pitch 0.8mm, NSC Recommended)
pins: 1 SW (power), 2 BST (in), 3 ISEN (in), 4 SGND (power), 5 RTN (power), 6 FB (in), 7 SS (in), 8 RON/SD (in), 9 VCC (power), 10 VIN (power), 11 DAP (power)

## LM5010MH
designator U?
High Voltage 1A Step Down Switching Regulator; PartNumber: LM5010MH; Manufacturer: National Semiconductor; CompType: MiscPower; PackageTopMarking: NSUZXYTT*L5010*MH; PowerWise: N; Published: 4-Dec-2008; DatasheetVersion: Feb-2008; PackageVersion: revA, Feb-2003; PackageReference: MXA14A; Publisher: Altium Limited; PackageDescription: Molded TSSOP, JEDEC, Exposed Pad, 5.0 x 4.4 x 0.9mm Body, 14 Lead, 0.65mm Pitch; RoHS: Y; PinCount: 14; DigiKeyPartNumber: LM5010MH-ND; Code_JEDEC: MO-153-ABT-1; ComponentLink1Description: LM5010 Datasheet; ComponentLink1URL: http://www.national.com/ds/LM/LM5010.pdf; ComponentLink2Description: LM5010 Web Page; ComponentLink2URL: http://www.national.com/pf/LM/LM5010.html; ComponentLink3Description: MXA14A Package Page; ComponentLink3URL: http://www.national.com/packaging/folders/mxa14a.html
footprint MXA14A_N (TSOP, 14-Leads, Body 5x4.4mm, Pitch 0.65mm, Exposed Pad, IPC Medium Density)
footprint MXA14A_L (TSOP, 14-Leads, Body 5x4.4mm, Pitch 0.65mm, Exposed Pad, IPC High Density)
footprint MXA14A_M (TSOP, 14-Leads, Body 5x4.4mm, Pitch 0.65mm, Exposed Pad, IPC Low Density)
pins: 1 NC, 2 SW (power), 3 BST (in), 4 ISEN (in), 5 SGND (power), 6 RTN (power), 7 NC, 8 NC, 9 FB (in), 10 SS (in), 11 RON/SD (in), 12 VCC (power), 13 VIN (power), 14 NC, 15 DAP (power)

## LM5010SD
designator U?
High Voltage 1A Step Down Switching Regulator; PartNumber: LM5010SD; Manufacturer: National Semiconductor; CompType: MiscPower; PackageTopMarking: NS*UZXYTT*L00057B; PowerWise: N; Published: 4-Dec-2008; DatasheetVersion: Feb-2008; PackageVersion: revA, May-2003; PackageReference: SDC10A; Publisher: Altium Limited; PackageDescription: LLP, Plastic, Dual, 4 x 4 x 0.8mm Body, 10 Lead, 0.8mm Pitch, No Pullback; RoHS: O; PinCount: 10; DigiKeyPartNumber: LM5010SDCT-ND; ComponentLink1Description: LM5010 Datasheet; ComponentLink1URL: http://www.national.com/ds/LM/LM5010.pdf; ComponentLink2Description: LM5010 Web Page; ComponentLink2URL: http://www.national.com/pf/LM/LM5010.html; ComponentLink3Description: SDC10A Package Page; ComponentLink3URL: http://www.national.com/packaging/folders/sdc10a.html
footprint SDC10A (SON, 10-Leads, Body 4x4 mm, Pitch 0.8mm, NSC Recommended)
pins: 1 SW (power), 2 BST (in), 3 ISEN (in), 4 SGND (power), 5 RTN (power), 6 FB (in), 7 SS (in), 8 RON/SD (in), 9 VCC (power), 10 VIN (power), 11 DAP (power)

## LM5015MH
designator U?
High Voltage Monolithic Two-Switch Forward DC-DC Regulator; PartNumber: LM5015MH; Manufacturer: National Semiconductor; CompType: MiscPower; PackageTopMarking: NSUZXYTT*LM5015*MH; PowerWise: N; Published: 4-Dec-2008; DatasheetVersion: Dec-2007; PackageVersion: revA, Feb-2003; PackageReference: MXA14A; Publisher: Altium Limited; PackageDescription: Molded TSSOP, JEDEC, Exposed Pad, 5.0 x 4.4 x 0.9mm Body, 14 Lead, 0.65mm Pitch; RoHS: Y; PinCount: 14; DigiKeyPartNumber: LM5015MH-ND; Code_JEDEC: MO-153-ABT-1; ComponentLink1Description: LM5015 Datasheet; ComponentLink1URL: http://www.national.com/ds/LM/LM5015.pdf; ComponentLink2Description: LM5015 Web Page; ComponentLink2URL: http://www.national.com/pf/LM/LM5015.html; ComponentLink3Description: MXA14A Package Page; ComponentLink3URL: http://www.national.com/packaging/folders/mxa14a.html
footprint MXA14A_N (TSOP, 14-Leads, Body 5x4.4mm, Pitch 0.65mm, Exposed Pad, IPC Medium Density)
footprint MXA14A_L (TSOP, 14-Leads, Body 5x4.4mm, Pitch 0.65mm, Exposed Pad, IPC High Density)
footprint MXA14A_M (TSOP, 14-Leads, Body 5x4.4mm, Pitch 0.65mm, Exposed Pad, IPC Low Density)
pins: 1 AGND (power), 2 RT (in), 3 FB (in), 4 COMP, 5 CFB (in), 6 PGND (power), 7 LO (out), 8 PVIN (power), 9 HO (out), 10 BST (in), 11 VCC (power), 12 VIN (power), 13 EN (in), 14 SS (in), 15 EP (power)

## LM5020MM-1
designator U?
100V Current Mode PWM Controller; PartNumber: LM5020MM-1; Manufacturer: National Semiconductor; CompType: MiscPower; PackageTopMarking: ZXTT*SBLB; PowerWise: Y; Published: 4-Dec-2008; DatasheetVersion: Apr-2006; PackageVersion: revB, Jul-2003; PackageReference: MUB10A; Publisher: Altium Limited; PackageDescription: Mini-SO, Molded, .118 x .118 x .034in Body, 10 Lead, .0197in Pitch; RoHS: O; PinCount: 10; DigiKeyPartNumber: LM5020MM-1CT-ND; Code_JEDEC: MO-187-BA; ComponentLink1Description: LM5020 Datasheet; ComponentLink1URL: http://www.national.com/ds/LM/LM5020.pdf; ComponentLink2Description: LM5020 Web Page; ComponentLink2URL: http://www.national.com/pf/LM/LM5020.html; ComponentLink3Description: MUB10A Package Page; ComponentLink3URL: http://www.national.com/packaging/folders/mub10a.html
footprint MUB10A_N (TSSOP, 10-Leads, Body 3x3mm, Pitch 0.5mm, IPC Medium Density)
footprint MUB10A_L (TSSOP, 10-Leads, Body 3x3mm, Pitch 0.5mm, IPC High Density)
footprint MUB10A_M (TSSOP, 10-Leads, Body 3x3mm, Pitch 0.5mm, IPC Low Density)
pins: 1 VIN (power), 2 FB (in), 3 COMP, 4 VCC (power), 5 OUT (out), 6 GND (power), 7 ULVO (in), 8 CS (in), 9 RT/SYNC (in), 10 SS (in)

## LM5020MM-2
designator U?
100V Current Mode PWM Controller; PartNumber: LM5020MM-2; Manufacturer: National Semiconductor; CompType: MiscPower; PackageTopMarking: ZXTT*SBNB; PowerWise: Y; Published: 4-Dec-2008; DatasheetVersion: Apr-2006; PackageVersion: revB, Jul-2003; PackageReference: MUB10A; Publisher: Altium Limited; PackageDescription: Mini-SO, Molded, .118 x .118 x .034in Body, 10 Lead, .0197in Pitch; RoHS: O; PinCount: 10; DigiKeyPartNumber: LM5020MM-2CT-ND; Code_JEDEC: MO-187-BA; ComponentLink1Description: LM5020 Datasheet; ComponentLink1URL: http://www.national.com/ds/LM/LM5020.pdf; ComponentLink2Description: LM5020 Web Page; ComponentLink2URL: http://www.national.com/pf/LM/LM5020.html; ComponentLink3Description: MUB10A Package Page; ComponentLink3URL: http://www.national.com/packaging/folders/mub10a.html
footprint MUB10A_N (TSSOP, 10-Leads, Body 3x3mm, Pitch 0.5mm, IPC Medium Density)
footprint MUB10A_L (TSSOP, 10-Leads, Body 3x3mm, Pitch 0.5mm, IPC High Density)
footprint MUB10A_M (TSSOP, 10-Leads, Body 3x3mm, Pitch 0.5mm, IPC Low Density)
pins: 1 VIN (power), 2 FB (in), 3 COMP, 4 VCC (power), 5 OUT (out), 6 GND (power), 7 ULVO (in), 8 CS (in), 9 RT/SYNC (in), 10 SS (in)

## LM5020SD-1
designator U?
100V Current Mode PWM Controller; PartNumber: LM5020SD-1; Manufacturer: National Semiconductor; CompType: MiscPower; PackageTopMarking: NS*UZXYTT*5020-1; PowerWise: Y; Published: 4-Dec-2008; DatasheetVersion: Apr-2006; PackageVersion: revA, May-2003; PackageReference: SDC10A; Publisher: Altium Limited; PackageDescription: LLP, Plastic, Dual, 4 x 4 x 0.8mm Body, 10 Lead, 0.8mm Pitch, No Pullback; RoHS: Y; PinCount: 10; DigiKeyPartNumber: LM5020SD-1CT-ND; ComponentLink1Description: LM5020 Datasheet; ComponentLink1URL: http://www.national.com/ds/LM/LM5020.pdf; ComponentLink2Description: LM5020 Web Page; ComponentLink2URL: http://www.national.com/pf/LM/LM5020.html; ComponentLink3Description: SDC10A Package Page; ComponentLink3URL: http://www.national.com/packaging/folders/sdc10a.html
footprint SDC10A (SON, 10-Leads, Body 4x4 mm, Pitch 0.8mm, NSC Recommended)
pins: 1 VIN (power), 2 FB (in), 3 COMP, 4 VCC (power), 5 OUT (out), 6 GND (power), 7 ULVO (in), 8 CS (in), 9 RT/SYNC (in), 10 SS (in), 11 DAP (power)

## LM5020SD-2
designator U?
100V Current Mode PWM Controller; PartNumber: LM5020SD-2; Manufacturer: National Semiconductor; CompType: MiscPower; PackageTopMarking: NS*UZXYTT*5020-2; PowerWise: Y; Published: 4-Dec-2008; DatasheetVersion: Apr-2006; PackageVersion: revA, May-2003; PackageReference: SDC10A; Publisher: Altium Limited; PackageDescription: LLP, Plastic, Dual, 4 x 4 x 0.8mm Body, 10 Lead, 0.8mm Pitch, No Pullback; RoHS: Y; PinCount: 10; DigiKeyPartNumber: LM5020SD-2CT-ND; ComponentLink1Description: LM5020 Datasheet; ComponentLink1URL: http://www.national.com/ds/LM/LM5020.pdf; ComponentLink2Description: LM5020 Web Page; ComponentLink2URL: http://www.national.com/pf/LM/LM5020.html; ComponentLink3Description: SDC10A Package Page; ComponentLink3URL: http://www.national.com/packaging/folders/sdc10a.html
footprint SDC10A (SON, 10-Leads, Body 4x4 mm, Pitch 0.8mm, NSC Recommended)
pins: 1 VIN (power), 2 FB (in), 3 COMP, 4 VCC (power), 5 OUT (out), 6 GND (power), 7 ULVO (in), 8 CS (in), 9 RT/SYNC (in), 10 SS (in), 11 DAP (power)

## LM5021MM-1
designator U?
AC-DC Current Mode PWM Controller; PartNumber: LM5021MM-1; Manufacturer: National Semiconductor; CompType: MiscPower; PackageTopMarking: ZXTT*21-1; PowerWise: N; Published: 4-Dec-2008; DatasheetVersion: Jun-2006; PackageVersion: revF, Apr-2008; PackageReference: MUA08A; Publisher: Altium Limited; PackageDescription: MINI SOIC, .118 x .118 x .034in, 8 Lead, .0256in Pitch; RoHS: Y; PinCount: 8; DigiKeyPartNumber: LM5021MM-1CT-ND; Code_JEDEC: MO-187-AA; ComponentLink1Description: LM5021 Datasheet; ComponentLink1URL: http://www.national.com/ds/LM/LM5021.pdf; ComponentLink2Description: LM5021 Web Page; ComponentLink2URL: http://www.national.com/pf/LM/LM5021.html; ComponentLink3Description: MUA08A Package Page; ComponentLink3URL: http://www.national.com/packaging/folders/mua08a.html
footprint MUA08A_N (TSOP, 8-Leads, Body 3x3mm, Pitch 0.65mm, IPC Medium Density)
footprint MUA08A_L (TSOP, 8-Leads, Body 3x3mm, Pitch 0.65mm, IPC High Density)
footprint MUA08A_M (TSOP, 8-Leads, Body 3x3mm, Pitch 0.65mm, IPC Low Density)
pins: 1 COMP (in), 2 VIN (power), 3 VCC (power), 4 OUT (out), 5 GND (power), 6 CS (in), 7 RT (in), 8 SS (in)

## LM5021MM-2
designator U?
AC-DC Current Mode PWM Controller; PartNumber: LM5021MM-2; Manufacturer: National Semiconductor; CompType: MiscPower; PackageTopMarking: ZXTT*21-2; PowerWise: N; Published: 4-Dec-2008; DatasheetVersion: Jun-2006; PackageVersion: revF, Apr-2008; PackageReference: MUA08A; Publisher: Altium Limited; PackageDescription: MINI SOIC, .118 x .118 x .034in, 8 Lead, .0256in Pitch; RoHS: Y; PinCount: 8; DigiKeyPartNumber: LM5021MM-2CT-ND; Code_JEDEC: MO-187-AA; ComponentLink1Description: LM5021 Datasheet; ComponentLink1URL: http://www.national.com/ds/LM/LM5021.pdf; ComponentLink2Description: LM5021 Web Page; ComponentLink2URL: http://www.national.com/pf/LM/LM5021.html; ComponentLink3Description: MUA08A Package Page; ComponentLink3URL: http://www.national.com/packaging/folders/mua08a.html
footprint MUA08A_N (TSOP, 8-Leads, Body 3x3mm, Pitch 0.65mm, IPC Medium Density)
footprint MUA08A_L (TSOP, 8-Leads, Body 3x3mm, Pitch 0.65mm, IPC High Density)
footprint MUA08A_M (TSOP, 8-Leads, Body 3x3mm, Pitch 0.65mm, IPC Low Density)
pins: 1 COMP (in), 2 VIN (power), 3 VCC (power), 4 OUT (out), 5 GND (power), 6 CS (in), 7 RT (in), 8 SS (in)

## LM5021NA-1
designator U?
AC-DC Current Mode PWM Controller; PartNumber: LM5021NA-1; Manufacturer: National Semiconductor; CompType: MiscPower; PackageTopMarking: NSUZXYTT*LM5021NA*-1; PowerWise: N; Published: 4-Dec-2008; DatasheetVersion: Jun-2006; PackageVersion: revG, May-2006; PackageReference: N08E; Publisher: Altium Limited; PackageDescription: MDIP, .365 x .250 x .130in, 8 Lead, .100in Pitch; RoHS: Y; PinCount: 8; DigiKeyPartNumber: LM5021NA-1-ND; Code_JEDEC: MS-001-BA; ComponentLink1Description: LM5021 Datasheet; ComponentLink1URL: http://www.national.com/ds/LM/LM5021.pdf; ComponentLink2Description: LM5021 Web Page; ComponentLink2URL: http://www.national.com/pf/LM/LM5021.html; ComponentLink3Description: N08E Package Page; ComponentLink3URL: http://www.national.com/packaging/folders/n08e.html
footprint N08E (DIP, 8-Leads, Row Spacing 7.62mm, Pitch 2.54mm, Body 9.91x6.35mm)
pins: 1 COMP (in), 2 VIN (power), 3 VCC (power), 4 OUT (out), 5 GND (power), 6 CS (in), 7 RT (in), 8 SS (in)

## LM5021NA-2
designator U?
AC-DC Current Mode PWM Controller; PartNumber: LM5021NA-2; Manufacturer: National Semiconductor; CompType: MiscPower; PackageTopMarking: NSUZXYTT*LM5021NA*-2; Published: 4-Dec-2008; DatasheetVersion: Jun-2006; PackageVersion: revG, May-2006; PackageReference: N08E; Publisher: Altium Limited; PackageDescription: MDIP, .365 x .250 x .130in, 8 Lead, .100in Pitch; RoHS: Y; PinCount: 8; DigiKeyPartNumber: LM5021NA-2-ND; Code_JEDEC: MS-001-BA; ComponentLink1Description: LM5021 Datasheet; ComponentLink1URL: http://www.national.com/ds/LM/LM5021.pdf; ComponentLink2Description: LM5021 Web Page; ComponentLink2URL: http://www.national.com/pf/LM/LM5021.html; ComponentLink3Description: N08E Package Page; ComponentLink3URL: http://www.national.com/packaging/folders/n08e.html
footprint N08E (DIP, 8-Leads, Row Spacing 7.62mm, Pitch 2.54mm, Body 9.91x6.35mm)
pins: 1 COMP (in), 2 VIN (power), 3 VCC (power), 4 OUT (out), 5 GND (power), 6 CS (in), 7 RT (in), 8 SS (in)

## LM5022MM
designator U?
60V Low Side  Controller for Boost and SEPIC; PartNumber: LM5022MM; Manufacturer: National Semiconductor; CompType: MiscPower; PackageTopMarking: ZXTT*5022; PowerWise: Y; Published: 4-Dec-2008; DatasheetVersion: Aug-2007; PackageVersion: revB, Jul-2003; PackageReference: MUB10A; Publisher: Altium Limited; PackageDescription: Mini-SO, Molded, .118 x .118 x .034in Body, 10 Lead, .0197in Pitch; RoHS: Y; PinCount: 10; DigiKeyPartNumber: LM5022MMCT-ND; Code_JEDEC: MO-187-BA; ComponentLink1Description: LM5022 Datasheet; ComponentLink1URL: http://www.national.com/ds/LM/LM5022.pdf; ComponentLink2Description: LM5022 Web Page; ComponentLink2URL: http://www.national.com/pf/LM/LM5022.html; ComponentLink3Description: MUB10A Package Page; ComponentLink3URL: http://www.national.com/packaging/folders/mub10a.html
footprint MUB10A_N (TSSOP, 10-Leads, Body 3x3mm, Pitch 0.5mm, IPC Medium Density)
footprint MUB10A_L (TSSOP, 10-Leads, Body 3x3mm, Pitch 0.5mm, IPC High Density)
footprint MUB10A_M (TSSOP, 10-Leads, Body 3x3mm, Pitch 0.5mm, IPC Low Density)
pins: 1 VIN (power), 2 FB (in), 3 COMP, 4 VCC (power), 5 OUT (out), 6 GND (power), 7 ULVO (in), 8 CS (in), 9 RT/SYNC (in), 10 SS (in)

## LM5025AMTC
designator U?
Active Clamp Voltage Mode PWM Controller; PartNumber: LM5025AMTC; Manufacturer: National Semiconductor; CompType: MiscPower; PackageTopMarking: NSUZXYTT*L5025A*MTC; PowerWise: Y; Published: 4-Dec-2008; DatasheetVersion: Dec-2004; PackageVersion: revD, Jun-2003; PackageReference: MTC16; Publisher: Altium Limited; PackageDescription: Molded TSSOP, Jedec, 5 x 4.4 x 0.9mm Body, 16 Lead, 0.65mm Pitch; RoHS: Y; PinCount: 16; DigiKeyPartNumber: LM5025AMTC-ND; Code_JEDEC: MO-153-AB; ComponentLink1Description: LM5025A Datasheet; ComponentLink1URL: http://www.national.com/ds/LM/LM5025A.pdf; ComponentLink2Description: LM5025A Web Page; ComponentLink2URL: http://www.national.com/pf/LM/LM5025A.html; ComponentLink3Description: MTC16 Package Page; ComponentLink3URL: http://www.national.com/packaging/folders/mtc16.html
footprint MTC16_N (TSOP, 16-Leads, Body 5x4.4mm, Pitch 0.65mm, IPC Medium Density)
footprint MTC16_L (TSOP, 16-Leads, Body 5x4.4mm, Pitch 0.65mm, IPC High Density)
footprint MTC16_M (TSOP, 16-Leads, Body 5x4.4mm, Pitch 0.65mm, IPC Low Density)
pins: 1 VIN (power), 2 RAMP (in), 3 CS1 (in), 4 CS2 (in), 5 TIME (in), 6 REF (out), 7 VCC (power), 8 OUTA (out), 9 OUTB (out), 10 PGND (power), 11 AGND (power), 12 SS (in), 13 COMP, 14 RT (in), 15 SYNC (in), 16 UVLO (in)